# EAGLE library part XC2S*E-PQ208 (library kamiki)
Xilinx FPGA Spartan II XC2S200E PQFP 208
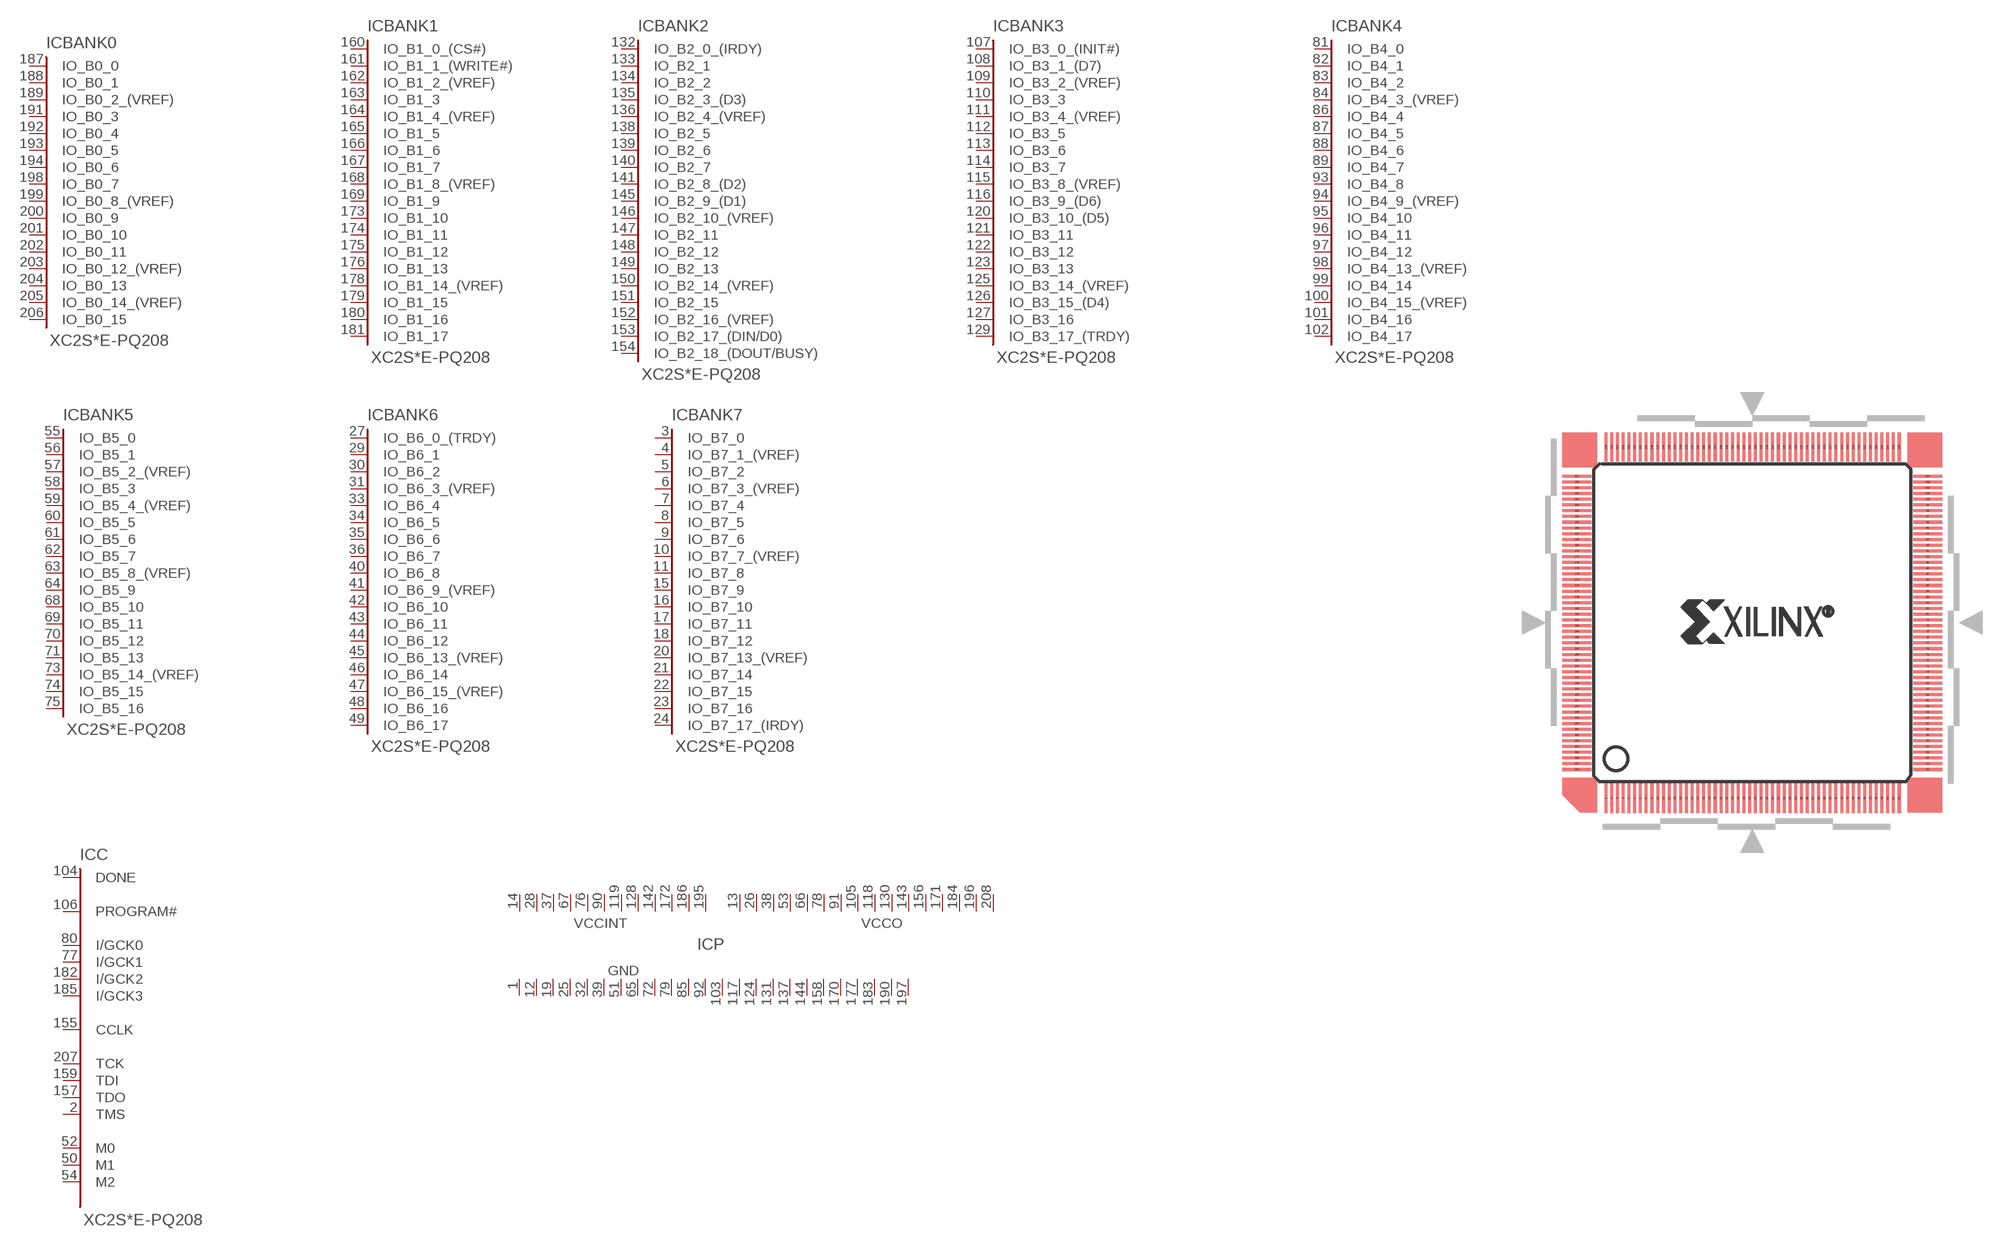
[diagram p35: symbol with the pads of PQ208; footprint PQ208]

Designator prefix IC; gates P=PWR_XC2S200 BANK0=XC2SE_B0 BANK1=XC2SE_B1 BANK2=XC2SE_B2 BANK3=XC2SE_B3 BANK4=XC2SE_B4 BANK5=XC2SE_B5 BANK6=XC2SE_B6 BANK7=XC2SE_B7 C=XC2SE_C

## XC2S100E-PQ208, XC2S150E-PQ208, XC2S200E-PQ208, XC2S300E-PQ208, XC2S50E-PQ208  [PQ208]
1  P:GND  pwr
2  C:TMS
3  BANK7:IO_B7_0
4  BANK7:IO_B7_1_(VREF)
5  BANK7:IO_B7_2
6  BANK7:IO_B7_3_(VREF)
7  BANK7:IO_B7_4
8  BANK7:IO_B7_5
9  BANK7:IO_B7_6
10  BANK7:IO_B7_7_(VREF)
11  BANK7:IO_B7_8
12  P:GND  pwr
13  P:VCCO  pwr
14  P:VCCINT  pwr
15  BANK7:IO_B7_9
16  BANK7:IO_B7_10
17  BANK7:IO_B7_11
18  BANK7:IO_B7_12
19  P:GND  pwr
20  BANK7:IO_B7_13_(VREF)
21  BANK7:IO_B7_14
22  BANK7:IO_B7_15
23  BANK7:IO_B7_16
24  BANK7:IO_B7_17_(IRDY)
25  P:GND  pwr
26  P:VCCO  pwr
27  BANK6:IO_B6_0_(TRDY)
28  P:VCCINT  pwr
29  BANK6:IO_B6_1
30  BANK6:IO_B6_2
31  BANK6:IO_B6_3_(VREF)
32  P:GND  pwr
33  BANK6:IO_B6_4
34  BANK6:IO_B6_5
35  BANK6:IO_B6_6
36  BANK6:IO_B6_7
37  P:VCCINT  pwr
38  P:VCCO  pwr
39  P:GND  pwr
40  BANK6:IO_B6_8
41  BANK6:IO_B6_9_(VREF)
42  BANK6:IO_B6_10
43  BANK6:IO_B6_11
44  BANK6:IO_B6_12
45  BANK6:IO_B6_13_(VREF)
46  BANK6:IO_B6_14
47  BANK6:IO_B6_15_(VREF)
48  BANK6:IO_B6_16
49  BANK6:IO_B6_17
50  C:M1  in
51  P:GND  pwr
52  C:M0  in
53  P:VCCO  pwr
54  C:M2  in
55  BANK5:IO_B5_0
56  BANK5:IO_B5_1
57  BANK5:IO_B5_2_(VREF)
58  BANK5:IO_B5_3
59  BANK5:IO_B5_4_(VREF)
60  BANK5:IO_B5_5
61  BANK5:IO_B5_6
62  BANK5:IO_B5_7
63  BANK5:IO_B5_8_(VREF)
64  BANK5:IO_B5_9
65  P:GND  pwr
66  P:VCCO  pwr
67  P:VCCINT  pwr
68  BANK5:IO_B5_10
69  BANK5:IO_B5_11
70  BANK5:IO_B5_12
71  BANK5:IO_B5_13
72  P:GND  pwr
73  BANK5:IO_B5_14_(VREF)
74  BANK5:IO_B5_15
75  BANK5:IO_B5_16
76  P:VCCINT  pwr
77  C:I/GCK1
78  P:VCCO  pwr
79  P:GND  pwr
80  C:I/GCK0
81  BANK4:IO_B4_0
82  BANK4:IO_B4_1
83  BANK4:IO_B4_2
84  BANK4:IO_B4_3_(VREF)
85  P:GND  pwr
86  BANK4:IO_B4_4
87  BANK4:IO_B4_5
88  BANK4:IO_B4_6
89  BANK4:IO_B4_7
90  P:VCCINT  pwr
91  P:VCCO  pwr
92  P:GND  pwr
93  BANK4:IO_B4_8
94  BANK4:IO_B4_9_(VREF)
95  BANK4:IO_B4_10
96  BANK4:IO_B4_11
97  BANK4:IO_B4_12
98  BANK4:IO_B4_13_(VREF)
99  BANK4:IO_B4_14
100  BANK4:IO_B4_15_(VREF)
101  BANK4:IO_B4_16
102  BANK4:IO_B4_17
103  P:GND  pwr
104  C:DONE
105  P:VCCO  pwr
106  C:PROGRAM#
107  BANK3:IO_B3_0_(INIT#)
108  BANK3:IO_B3_1_(D7)
109  BANK3:IO_B3_2_(VREF)
110  BANK3:IO_B3_3
111  BANK3:IO_B3_4_(VREF)
112  BANK3:IO_B3_5
113  BANK3:IO_B3_6
114  BANK3:IO_B3_7
115  BANK3:IO_B3_8_(VREF)
116  BANK3:IO_B3_9_(D6)
117  P:GND  pwr
118  P:VCCO  pwr
119  P:VCCINT  pwr
120  BANK3:IO_B3_10_(D5)
121  BANK3:IO_B3_11
122  BANK3:IO_B3_12
123  BANK3:IO_B3_13
124  P:GND  pwr
125  BANK3:IO_B3_14_(VREF)
126  BANK3:IO_B3_15_(D4)
127  BANK3:IO_B3_16
128  P:VCCINT  pwr
129  BANK3:IO_B3_17_(TRDY)
130  P:VCCO  pwr
131  P:GND  pwr
132  BANK2:IO_B2_0_(IRDY)
133  BANK2:IO_B2_1
134  BANK2:IO_B2_2
135  BANK2:IO_B2_3_(D3)
136  BANK2:IO_B2_4_(VREF)
137  P:GND  pwr
138  BANK2:IO_B2_5
139  BANK2:IO_B2_6
140  BANK2:IO_B2_7
141  BANK2:IO_B2_8_(D2)
142  P:VCCINT  pwr
143  P:VCCO  pwr
144  P:GND  pwr
145  BANK2:IO_B2_9_(D1)
146  BANK2:IO_B2_10_(VREF)
147  BANK2:IO_B2_11
148  BANK2:IO_B2_12
149  BANK2:IO_B2_13
150  BANK2:IO_B2_14_(VREF)
151  BANK2:IO_B2_15
152  BANK2:IO_B2_16_(VREF)
153  BANK2:IO_B2_17_(DIN/D0)
154  BANK2:IO_B2_18_(DOUT/BUSY)
155  C:CCLK
156  P:VCCO  pwr
157  C:TDO
158  P:GND  pwr
159  C:TDI
160  BANK1:IO_B1_0_(CS#)
161  BANK1:IO_B1_1_(WRITE#)
162  BANK1:IO_B1_2_(VREF)
163  BANK1:IO_B1_3
164  BANK1:IO_B1_4_(VREF)
165  BANK1:IO_B1_5
166  BANK1:IO_B1_6
167  BANK1:IO_B1_7
168  BANK1:IO_B1_8_(VREF)
169  BANK1:IO_B1_9
170  P:GND  pwr
171  P:VCCO  pwr
172  P:VCCINT  pwr
173  BANK1:IO_B1_10
174  BANK1:IO_B1_11
175  BANK1:IO_B1_12
176  BANK1:IO_B1_13
177  P:GND  pwr
178  BANK1:IO_B1_14_(VREF)
179  BANK1:IO_B1_15
180  BANK1:IO_B1_16
181  BANK1:IO_B1_17
182  C:I/GCK2
183  P:GND  pwr
184  P:VCCO  pwr
185  C:I/GCK3
186  P:VCCINT  pwr
187  BANK0:IO_B0_0
188  BANK0:IO_B0_1
189  BANK0:IO_B0_2_(VREF)
190  P:GND  pwr
191  BANK0:IO_B0_3
192  BANK0:IO_B0_4
193  BANK0:IO_B0_5
194  BANK0:IO_B0_6
195  P:VCCINT  pwr
196  P:VCCO  pwr
197  P:GND  pwr
198  BANK0:IO_B0_7
199  BANK0:IO_B0_8_(VREF)
200  BANK0:IO_B0_9
201  BANK0:IO_B0_10
202  BANK0:IO_B0_11
203  BANK0:IO_B0_12_(VREF)
204  BANK0:IO_B0_13
205  BANK0:IO_B0_14_(VREF)
206  BANK0:IO_B0_15
207  C:TCK
208  P:VCCO  pwr

## Footprint PQ208 (pad centres in mm)
XILINX FPGA PQ208 package, for OLIMEX.
smd 0.25 x 2.54: 1 -12.725,-15.275; 2 -12.225,-15.275; 3 -11.725,-15.275; 4 -11.225,-15.275; 5 -10.725,-15.275; 6 -10.225,-15.275; 7 -9.725,-15.275; 8 -9.225,-15.275; 9 -8.725,-15.275; 10 -8.225,-15.275; 11 -7.725,-15.275; 12 -7.225,-15.275; 13 -6.725,-15.275; 14 -6.225,-15.275; 15 -5.725,-15.275; 16 -5.225,-15.275; 17 -4.725,-15.275; 18 -4.225,-15.275; 19 -3.725,-15.275; 20 -3.225,-15.275; 21 -2.725,-15.275; 22 -2.225,-15.275; 23 -1.725,-15.275; 24 -1.225,-15.275; 25 -0.725,-15.275; 26 -0.225,-15.275; 27 0.275,-15.275; 28 0.775,-15.275; 29 1.275,-15.275; 30 1.775,-15.275; 31 2.275,-15.275; 32 2.775,-15.275; 33 3.275,-15.275; 34 3.775,-15.275; 35 4.275,-15.275; 36 4.775,-15.275; 37 5.275,-15.275; 38 5.775,-15.275; 39 6.275,-15.275; 40 6.775,-15.275; 41 7.275,-15.275; 42 7.775,-15.275; 43 8.275,-15.275; 44 8.775,-15.275; 45 9.275,-15.275; 46 9.775,-15.275; 47 10.275,-15.275; 48 10.775,-15.275; 49 11.275,-15.275; 50 11.775,-15.275; 51 12.275,-15.275; 52 12.775,-15.275; 105 12.775,15.25; 106 12.275,15.25; 107 11.775,15.25; 108 11.275,15.25; 109 10.775,15.25; 110 10.275,15.25; 111 9.775,15.25; 112 9.275,15.25; 113 8.775,15.25; 114 8.275,15.25; 115 7.775,15.25; 116 7.275,15.25; 117 6.775,15.25; 118 6.275,15.25; 119 5.775,15.25; 120 5.275,15.25; 121 4.775,15.25; 122 4.275,15.25; 123 3.775,15.25; 124 3.275,15.25; 125 2.775,15.25; 126 2.275,15.25; 127 1.775,15.25; 128 1.275,15.25; 129 0.775,15.25; 130 0.275,15.25; 131 -0.225,15.25; 132 -0.725,15.25; 133 -1.225,15.25; 134 -1.725,15.25; 135 -2.225,15.25; 136 -2.725,15.25; 137 -3.225,15.25; 138 -3.725,15.25; 139 -4.225,15.25; 140 -4.725,15.25; 141 -5.225,15.25; 142 -5.725,15.25; 143 -6.225,15.25; 144 -6.725,15.25; 145 -7.225,15.25; 146 -7.725,15.25; 147 -8.225,15.25; 148 -8.725,15.25; 149 -9.225,15.25; 150 -9.725,15.25; 151 -10.225,15.25; 152 -10.725,15.25; 153 -11.225,15.25; 154 -11.725,15.25; 155 -12.225,15.25; 156 -12.725,15.25
smd 2.54 x 0.25: 53 15.25,-12.775; 54 15.25,-12.275; 55 15.25,-11.775; 56 15.25,-11.275; 57 15.25,-10.775; 58 15.25,-10.275; 59 15.25,-9.775; 60 15.25,-9.275; 61 15.25,-8.775; 62 15.25,-8.275; 63 15.25,-7.775; 64 15.25,-7.275; 65 15.25,-6.775; 66 15.25,-6.275; 67 15.25,-5.775; 68 15.25,-5.275; 69 15.25,-4.775; 70 15.25,-4.275; 71 15.25,-3.775; 72 15.25,-3.275; 73 15.25,-2.775; 74 15.25,-2.275; 75 15.25,-1.775; 76 15.25,-1.275; 77 15.25,-0.775; 78 15.25,-0.275; 79 15.25,0.225; 80 15.25,0.725; 81 15.25,1.225; 82 15.25,1.725; 83 15.25,2.225; 84 15.25,2.725; 85 15.25,3.225; 86 15.25,3.725; 87 15.25,4.225; 88 15.25,4.725; 89 15.25,5.225; 90 15.25,5.725; 91 15.25,6.225; 92 15.25,6.725; 93 15.25,7.225; 94 15.25,7.725; 95 15.25,8.225; 96 15.25,8.725; 97 15.25,9.225; 98 15.25,9.725; 99 15.25,10.225; 100 15.25,10.725; 101 15.25,11.225; 102 15.25,11.725; 103 15.25,12.225; 104 15.25,12.725; 157 -15.25,12.725; 158 -15.25,12.225; 159 -15.25,11.725; 160 -15.25,11.225; 161 -15.25,10.725; 162 -15.25,10.225; 163 -15.25,9.725; 164 -15.25,9.225; 165 -15.25,8.725; 166 -15.25,8.225; 167 -15.25,7.725; 168 -15.25,7.225; 169 -15.25,6.725; 170 -15.25,6.225; 171 -15.25,5.725; 172 -15.25,5.225; 173 -15.25,4.725; 174 -15.25,4.225; 175 -15.25,3.725; 176 -15.25,3.225; 177 -15.25,2.725; 178 -15.25,2.225; 179 -15.25,1.725; 180 -15.25,1.225; 181 -15.25,0.725; 182 -15.25,0.225; 183 -15.25,-0.275; 184 -15.25,-0.775; 185 -15.25,-1.275; 186 -15.25,-1.775; 187 -15.25,-2.275; 188 -15.25,-2.775; 189 -15.25,-3.275; 190 -15.25,-3.775; 191 -15.25,-4.275; 192 -15.25,-4.775; 193 -15.25,-5.275; 194 -15.25,-5.775; 195 -15.25,-6.275; 196 -15.25,-6.775; 197 -15.25,-7.275; 198 -15.25,-7.775; 199 -15.25,-8.275; 200 -15.25,-8.775; 201 -15.25,-9.275; 202 -15.25,-9.775; 203 -15.25,-10.275; 204 -15.25,-10.775; 205 -15.25,-11.275; 206 -15.25,-11.775; 207 -15.25,-12.275; 208 -15.25,-12.775